# EAGLE library part 5VREGULATOR (library Pololu 5V Regulator)
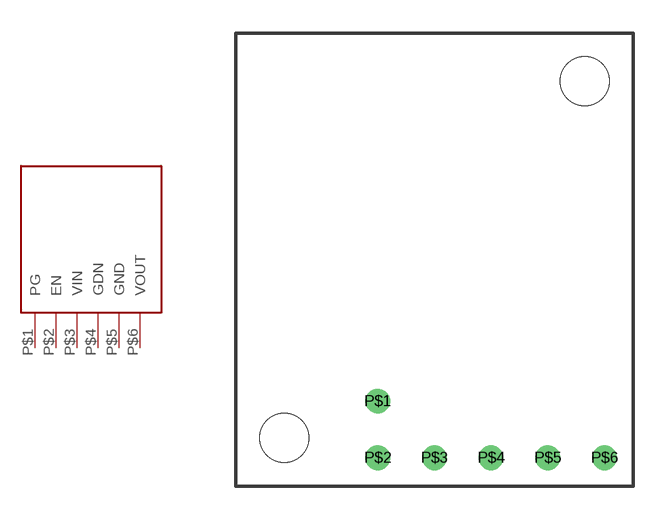
[diagram p0: symbol with the pads of POLOLU5VREGULATOR; footprint POLOLU5VREGULATOR]

Designator prefix -

## 5VREGULATOR  [POLOLU5VREGULATOR]
P$1  PG
P$2  EN
P$3  VIN
P$4  GDN
P$5  GND
P$6  VOUT

## Footprint POLOLU5VREGULATOR (pad centres in mm)
drill 0.6 pad 1.016: P$1 6.35,3.81; P$2 6.35,1.27; P$3 8.89,1.27; P$4 11.43,1.27; P$5 13.97,1.27; P$6 16.51,1.27
hole 2.184 at 2.159,2.159
hole 2.184 at 15.621,18.161